# Altium schematic symbol library SnapEDAsch.SchLib: 1 symbol
Pins are listed as number, name and electrical type; pins without a type are passive.

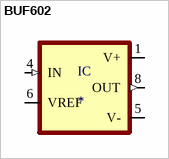
[diagram p0: symbol BUF602]

## BUF602
designator IC
Buffer Amplifier 1 Circuit SOT-23-5; MP: BUF602; MF: Texas Instruments; Price: None; SnapEDA_Link: https://www.snapeda.com/parts/BUF602/Texas%20Instruments/view-part/11398/?ref=snap; Availability: Unavailable; Value: *; Package: SO-8 Texas Instruments
footprint SO08
pins: 1 V+ (power), 4 IN (in), 5 V- (power), 6 VREF, 8 OUT (out)